# Altium schematic symbol library SFH615A-3X009T.SchLib: 1 symbol
Pins are listed as number, name and electrical type; pins without a type are passive.

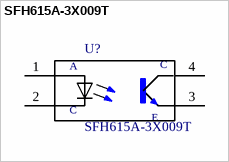
[diagram p0: symbol SFH615A-3X009T]

## SFH615A-3X009T
designator U?
Optocoupler DC-IN 1-CH Transistor DC-OUT 4-Pin PDIP SMD T/R; MF: Vishay Semiconductor; Package: SMD-4 Vishay; Price: 0.49 USD; MP: SFH615A-3X009T; SnapEDA_Link: https://www.snapeda.com/symbols-footprints/SFH615A-3X009T/Vishay%20Semiconductor%20Opto%20Division/view-part/?ref=snap; Availability: Warning; Value: *
footprint SOIC254P1016X390-4N
pins: 1 A, 2 C, 3 E, 4 CO